# EAGLE library part RA-4 (library RoboJackets-Resistors)
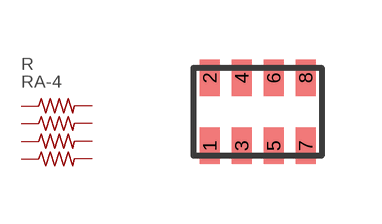
[diagram p0: symbol with the pads of RA_4_1206; footprint RA_4_1206]

Designator prefix R

## RA-41206  [RA_4_1206]
1  1  pas
2  2  pas
3  3  pas
4  4  pas
5  5  pas
6  6  pas
7  7  pas
8  8  pas

## Footprint RA_4_1206 (pad centres in mm)
smd 0.5 x 0.9: 1 -1.2,-0.85; 2 -1.2,0.85; 3 -0.4,-0.85; 4 -0.4,0.85; 5 0.4,-0.85; 6 0.4,0.85; 7 1.2,-0.85; 8 1.2,0.85